# EAGLE library part 74C1G175 (library robot)
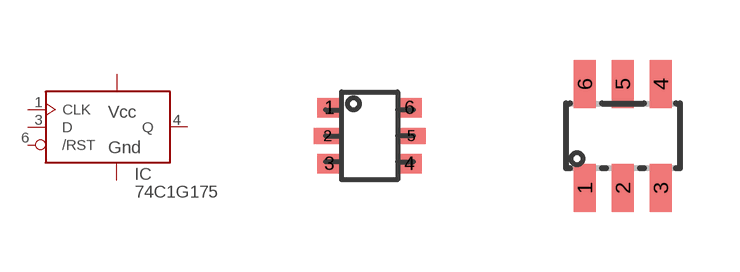
[diagram p5: symbol with the pads of SOT363; footprints SOT363, SOT23-6]

Designator prefix IC

## 74C1G175DCK  [SOT363]
1  CLK  in
2  GND  pwr
3  D  in
4  Q  out
5  VCC  pwr
6  /RST  in

## 74C1G175DBV  [SOT23-6]
Pads as for SOT363

## Footprint SOT363 (pad centres in mm)
smd 0.6 x 0.48: 1 -1,0.7; 3 -1,-0.7; 4 1,-0.7; 6 1,0.7
smd 0.7 x 0.4: 2 -1.05,0; 5 1.05,0

## Footprint SOT23-6 (pad centres in mm)
Small Outline Transistor
smd 0.55 x 1.2: 1 -0.95,-1.3; 2 0,-1.3; 3 0.95,-1.3; 4 0.95,1.3; 5 0,1.303; 6 -0.95,1.3